# Altium footprint library RFM95W-915S2.PcbLib: 2 footprints
Each footprint in its own frame and in the unit in brackets; x right, y up, seen from the top. Pads: shape width x height; smd on the part's side, far side on the other; paste and mask are expansions set on the pad; w line width, h text height; cw(c..) or ccw(c..) is an arc to the next point about the centre after c.
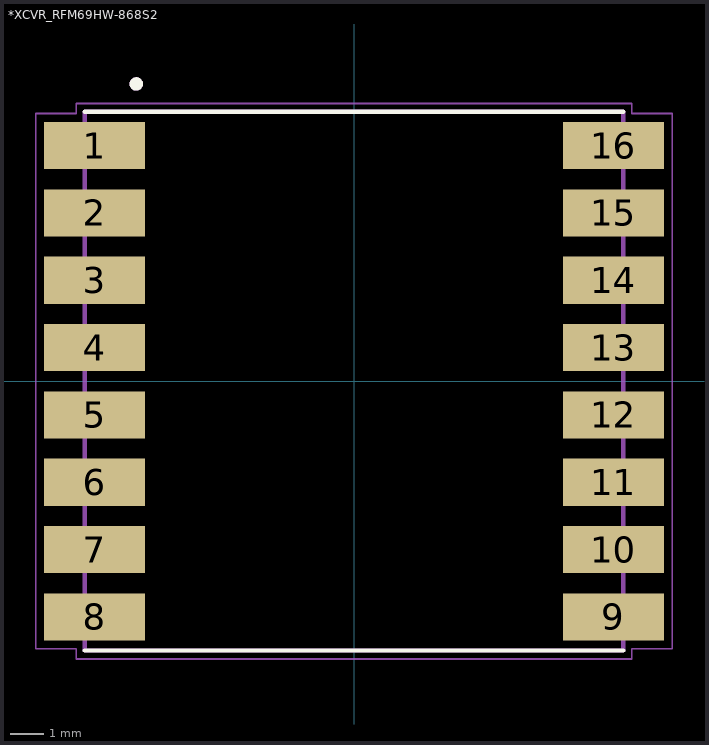
[diagram p0: the footprints below, top view; thin cyan lines are the x and y axes]

## *XCVR_RFM69HW-868S2 [mm]
pads (16):
  rect 3x1.4 smd: 1(-7.7,7) 2(-7.7,5) 3(-7.7,3) 4(-7.7,1) 5(-7.7,-1) 6(-7.7,-3) 7(-7.7,-5) 8(-7.7,-7) 9(7.7,-7) 10(7.7,-5) 11(7.7,-3) 12(7.7,-1) 13(7.7,1) 14(7.7,3) 15(7.7,5) 16(7.7,7)
Top Overlay:
  circle w0.2: c-6.467,8.828 r0.1
  lines w0.127: -8,-8 8,-8 ; -8,8 8,8
Mechanical 13:
  circle w0.2: c-6.467,8.828 r0.1
  circle w0.2: c-6.467,8.828 r0.1
  lines w0.127: -8,-8 -8,8 ; -8,-8 8,-8 ; -8,-8 -8,8 ; -8,-8 8,-8 ; -8,8 8,8 ; -8,8 8,8 ; 8,-8 8,8 ; 8,-8 8,8
Mechanical 15:
  lines w0.05: -9.45,-7.95 -8.25,-7.95 -8.25,-8.25 8.25,-8.25 8.25,-7.95 9.45,-7.95 9.45,7.95 8.25,7.95 8.25,8.25 -8.25,8.25 -8.25,7.95 -9.45,7.95 -9.45,-7.95
3D body "RFM95 LoRa v15.step": height 2.04, standoff 0, extent -7.999,-7.999 8.001,8.001

## PCBComponent_1 [mm]